# EAGLE library part CEM3340 (library CEM)
CEM 3340 VCO
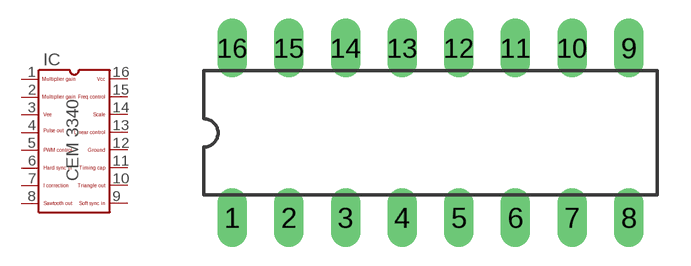
[diagram p0: symbol with the pads of DIL16; footprint DIL16]

Designator prefix IC

## CEM3340  [DIL16]
1  1
2  2
3  3  pwr
4  4  out
5  5  in
6  6  in
7  7
8  8  out
9  9  in
10  10  out
11  11
12  12  pwr
13  13  in
14  14  in
15  15  in
16  16  pwr

## Footprint DIL16 (pad centres in mm)
Dual In Line 16
drill 0.813 long: 1 -8.89,-3.81; 2 -6.35,-3.81; 3 -3.81,-3.81; 4 -1.27,-3.81; 5 1.27,-3.81; 6 3.81,-3.81; 7 6.35,-3.81; 8 8.89,-3.81; 9 8.89,3.81; 10 6.35,3.81; 11 3.81,3.81; 12 1.27,3.81; 13 -1.27,3.81; 14 -3.81,3.81; 15 -6.35,3.81; 16 -8.89,3.81